# EAGLE library part SENSIC-2 (library RFID)
Phase IV SensIC-2
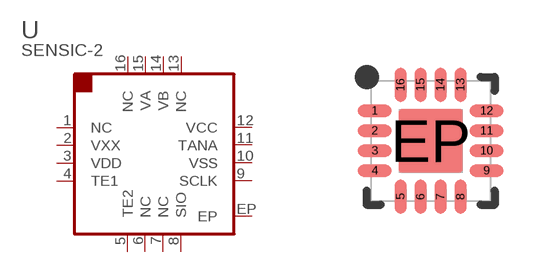
[diagram p7: symbol with the pads of QFN16-3X3; footprint QFN16-3X3]

Designator prefix U

## SENSIC-2 (PARTNO: 48-100005-00)  [QFN16-3X3]
1  NC  nc
2  VXX  pwr
3  VDD  pwr
4  TE1  pas
5  TE2  pas
6  NC  nc
7  NC  pas
8  SIO
9  SCLK  in
10  VSS  pwr
11  TANA
12  VCC  pwr
13  NC  nc
14  VB  pas
15  VA  pas
16  NC  nc
EP  EP  pwr

## Footprint QFN16-3X3 (pad centres in mm)
QFN16 3x3mm
smd 0.85 x 0.3: 1 -1.4,0.75; 2 -1.4,0.25; 3 -1.4,-0.25; 4 -1.4,-0.75; 9 1.4,-0.75; 10 1.4,-0.25; 11 1.4,0.25; 12 1.4,0.75
smd 0.3 x 0.85: 5 -0.75,-1.4; 6 -0.25,-1.4; 7 0.25,-1.4; 8 0.75,-1.4; 13 0.75,1.4; 14 0.25,1.4; 15 -0.25,1.4; 16 -0.75,1.4
smd 1.6 x 1.6: EP 0,0